# EAGLE library part RTL8153-CG (library SamacSys_Parts)
INTEGRATED 10/100/1000M ETHERNET CONTROLLER FOR USB APPLICATIONS Source: Datasheet <http://img.hqew.com/file/Others/110000-119999/113018/Electronic/2015816232439101951.pdf>
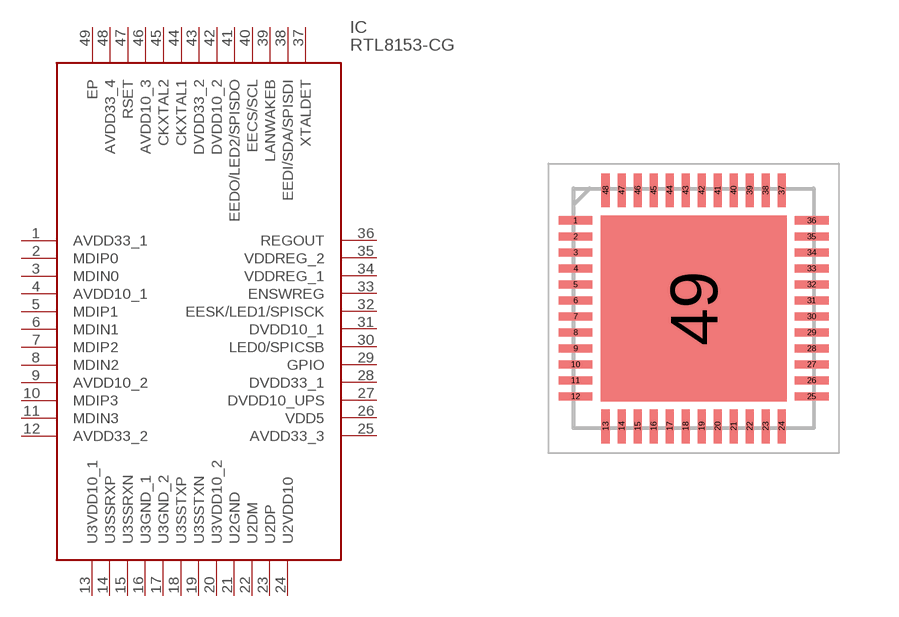
[diagram p26: symbol with the pads of QFN40P600X600X100-49N; footprint QFN40P600X600X100-49N]

Designator prefix IC

## RTL8153-CG (DESCRIPTION: INTEGRATED 10/100/1000M ETHERNET CONTROLLER FOR USB APPLICATIONS; HEIGHT: 1mm; MANUFACTURER_NAME: Realtek; MANUFACTURER_PART_NUMBER: RTL8153-CG)  [QFN40P600X600X100-49N]
1  AVDD33_1
2  MDIP0
3  MDIN0
4  AVDD10_1
5  MDIP1
6  MDIN1
7  MDIP2
8  MDIN2
9  AVDD10_2
10  MDIP3
11  MDIN3
12  AVDD33_2
13  U3VDD10_1
14  U3SSRXP
15  U3SSRXN
16  U3GND_1
17  U3GND_2
18  U3SSTXP
19  U3SSTXN
20  U3VDD10_2
21  U2GND
22  U2DM
23  U2DP
24  U2VDD10
25  AVDD33_3
26  VDD5
27  DVDD10_UPS
28  DVDD33_1
29  GPIO
30  LED0/SPICSB
31  DVDD10_1
32  EESK/LED1/SPISCK
33  ENSWREG
34  VDDREG_1
35  VDDREG_2
36  REGOUT
37  XTALDET
38  EEDI/SDA/SPISDI
39  LANWAKEB
40  EECS/SCL
41  EEDO/LED2/SPISDO
42  DVDD10_2
43  DVDD33_2
44  CKXTAL1
45  CKXTAL2
46  AVDD10_3
47  RSET
48  AVDD33_4
49  EP

## Footprint QFN40P600X600X100-49N (pad centres in mm)
48 QFN GREE
smd 0.85 x 0.2: 1 -2.95,2.2; 2 -2.95,1.8; 3 -2.95,1.4; 4 -2.95,1; 5 -2.95,0.6; 6 -2.95,0.2; 7 -2.95,-0.2; 8 -2.95,-0.6; 9 -2.95,-1; 10 -2.95,-1.4; 11 -2.95,-1.8; 12 -2.95,-2.2; 25 2.95,-2.2; 26 2.95,-1.8; 27 2.95,-1.4; 28 2.95,-1; 29 2.95,-0.6; 30 2.95,-0.2; 31 2.95,0.2; 32 2.95,0.6; 33 2.95,1; 34 2.95,1.4; 35 2.95,1.8; 36 2.95,2.2
smd 0.2 x 0.85: 13 -2.2,-2.95; 14 -1.8,-2.95; 15 -1.4,-2.95; 16 -1,-2.95; 17 -0.6,-2.95; 18 -0.2,-2.95; 19 0.2,-2.95; 20 0.6,-2.95; 21 1,-2.95; 22 1.4,-2.95; 23 1.8,-2.95; 24 2.2,-2.95; 37 2.2,2.95; 38 1.8,2.95; 39 1.4,2.95; 40 1,2.95; 41 0.6,2.95; 42 0.2,2.95; 43 -0.2,2.95; 44 -0.6,2.95; 45 -1,2.95; 46 -1.4,2.95; 47 -1.8,2.95; 48 -2.2,2.95
smd 4.65 x 4.65: 49 0,0